# EAGLE library part ESP82* (library Espressif)
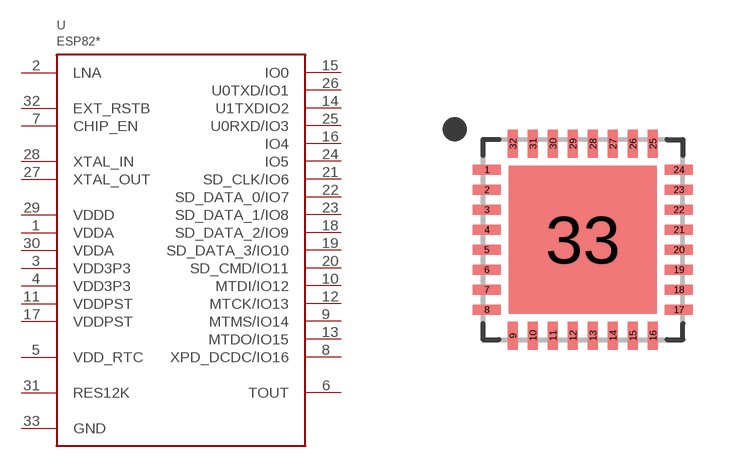
[diagram p0: symbol with the pads of QFN32; footprint QFN32]

Designator prefix U

## ESP8266EX, ESP8285  [QFN32]
1  VDDA
2  LNA
3  VDD3P3
4  VDD3P3
5  VDD_RTC
6  TOUT
7  CHIP_EN
8  XPD_DCDC/IO16
9  MTMS/IO14
10  MTDI/IO12
11  VDDPST
12  MTCK/IO13
13  MTDO/IO15
14  U1TXDIO2
15  IO0
16  IO4
17  VDDPST
18  SD_DATA_2/IO9
19  SD_DATA_3/IO10
20  SD_CMD/IO11
21  SD_CLK/IO6
22  SD_DATA_0/IO7
23  SD_DATA_1/IO8
24  IO5
25  U0RXD/IO3
26  U0TXD/IO1
27  XTAL_OUT
28  XTAL_IN
29  VDDD
30  VDDA
31  RES12K
32  EXT_RSTB
33  GND

## Footprint QFN32 (pad centres in mm)
smd 0.7 x 0.25: 1 -2.4,1.75; 2 -2.4,1.25; 3 -2.4,0.75; 4 -2.4,0.25; 5 -2.4,-0.25; 6 -2.4,-0.75; 7 -2.4,-1.25; 8 -2.4,-1.75; 17 2.4,-1.75; 18 2.4,-1.25; 19 2.4,-0.75; 20 2.4,-0.25; 21 2.4,0.25; 22 2.4,0.75; 23 2.4,1.25; 24 2.4,1.75
smd 0.25 x 0.7: 9 -1.75,-2.4; 10 -1.25,-2.4; 11 -0.75,-2.4; 12 -0.25,-2.4; 13 0.25,-2.4; 14 0.75,-2.4; 15 1.25,-2.4; 16 1.75,-2.4; 25 1.75,2.4; 26 1.25,2.4; 27 0.75,2.4; 28 0.25,2.4; 29 -0.25,2.4; 30 -0.75,2.4; 31 -1.25,2.4; 32 -1.75,2.4
smd 3.7 x 3.7: 33 0,0